# Altium footprint library badge.PcbLib: 33 footprints (part 2 of 3)
Each footprint in its own frame and in the unit in brackets; x right, y up, seen from the top. Pads: shape width x height; smd on the part's side, far side on the other; paste and mask are expansions set on the pad; w line width, h text height; cw(c..) or ccw(c..) is an arc to the next point about the centre after c.
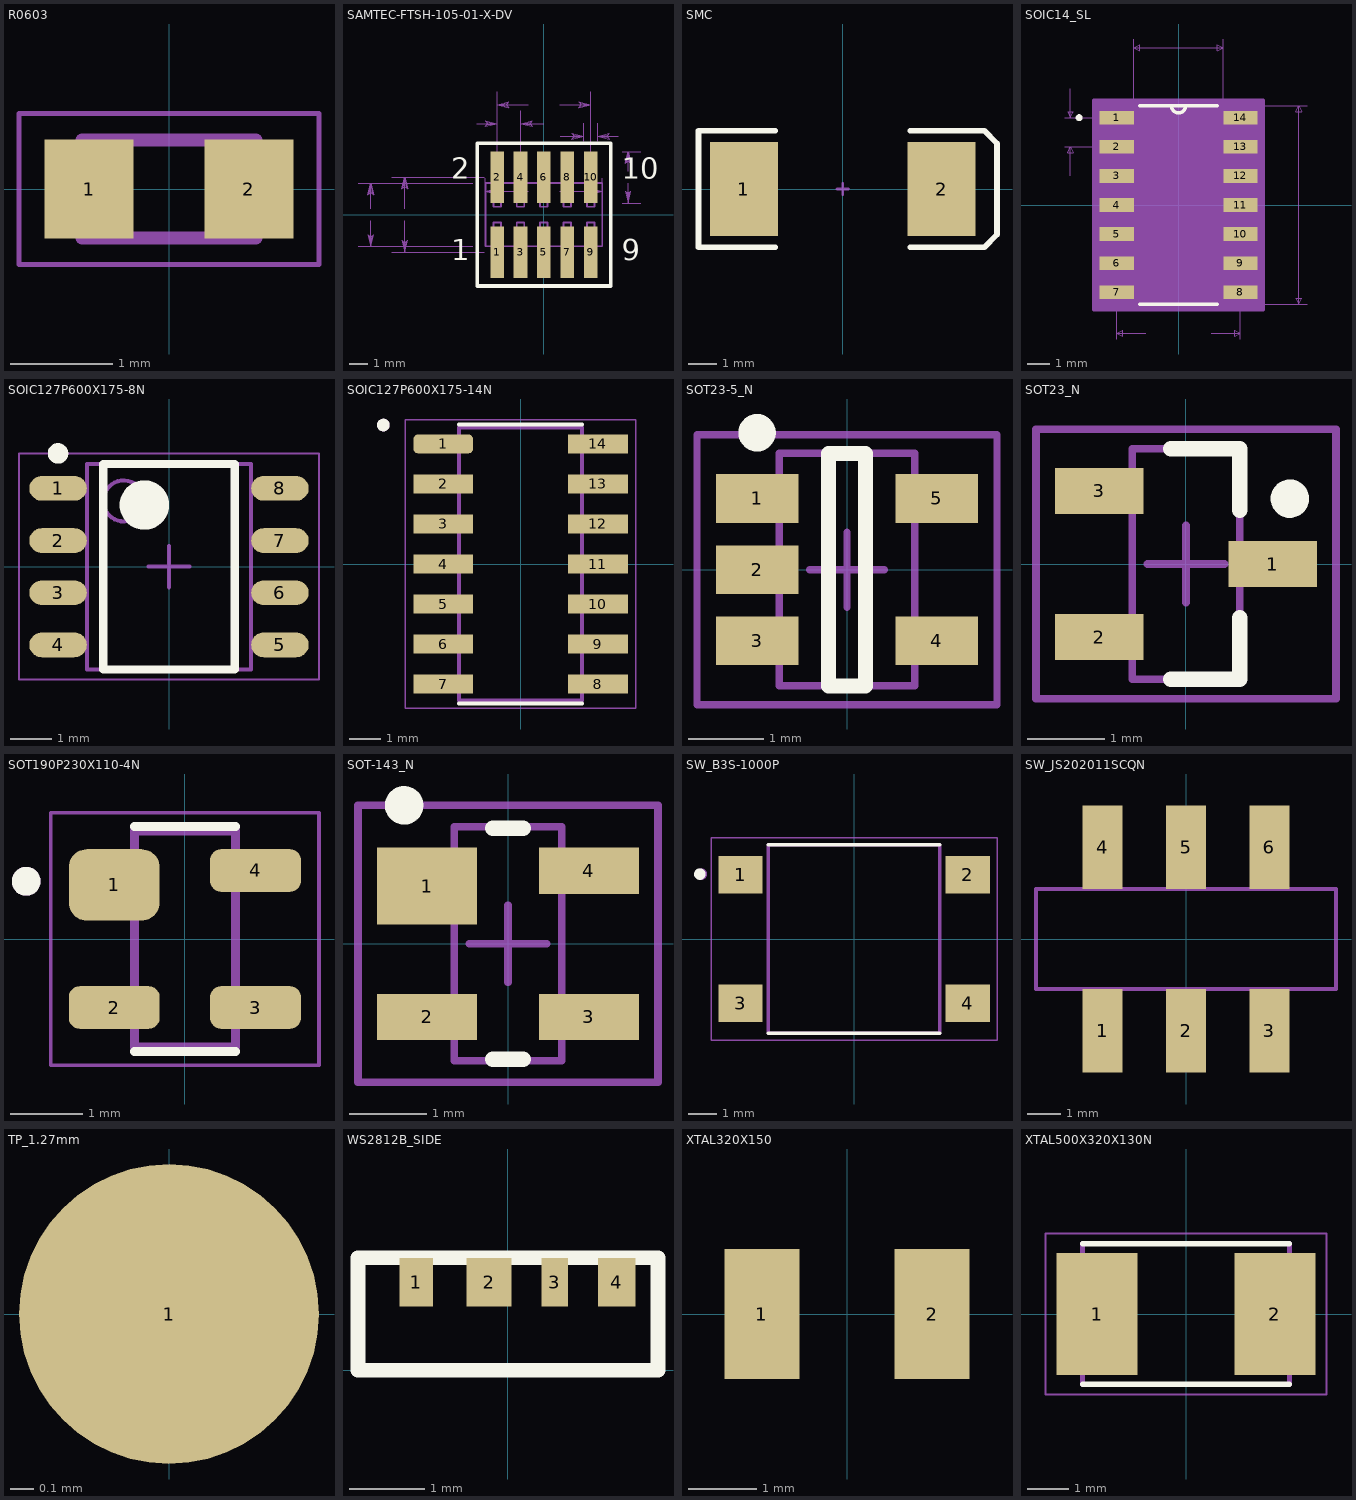
[diagram p1: the footprints below, top view; thin cyan lines are the x and y axes]

## R0603 [mm]
pads (2):
  rect 0.87x0.97 smd: 1(-0.78,0) 2(0.78,0)
Mechanical 13:
  lines w0.127: -0.85,-0.48 -0.85,0.48 0.85,0.48 0.85,-0.48 -0.85,-0.48
Mechanical 15:
  lines w0.05: -1.465,-0.737 -1.465,0.737 1.465,0.737 1.465,-0.737 -1.465,-0.737
3D body "RESC150X80X50L40.STEP": height 0.5, standoff 0, extent -0.75,-0.4 0.75,0.4

## SAMTEC-FTSH-105-01-X-DV [mil]
pads (10):
  rect 29.13x109.84 smd: 1(-100,-80) 2(-100,80) 3(-50,-80) 4(-50,80) 5(0,-80) 6(0,80) 7(50,-80) 8(50,80) 9(100,-80) 10(100,80)
Top Overlay:
  lines w7.87: -142.72,-152.68 -142.72,152.68 142.72,152.68 142.72,-152.68 -142.72,-152.68
  text "1" at -198.07,-112.01 h77.5
  text "2" at -198.07,62.01 h77.5
  text "9" at 166.58,-112.01 h77.5
  text "10" at 166.58,62.01 h77.5
Top Paste:
  rectangle: -114.57,-134.92 -85.43,-25.08
  rectangle: -114.57,25.08 -85.43,134.92
  rectangle: -64.57,-134.92 -35.43,-25.08
  rectangle: -64.57,25.08 -35.43,134.92
  rectangle: -14.57,-134.92 14.57,-25.08
  rectangle: -14.57,25.08 14.57,134.92
  rectangle: 35.43,-134.92 64.57,-25.08
  rectangle: 35.43,25.08 64.57,134.92
  rectangle: 85.43,-134.92 114.57,-25.08
  rectangle: 85.43,25.08 114.57,134.92
Top Solder:
  rectangle: -116.58,-136.93 -83.43,-23.07
  rectangle: -116.58,23.07 -83.43,136.93
  rectangle: -66.58,-136.93 -33.43,-23.07
  rectangle: -66.58,23.07 -33.43,136.93
  rectangle: -16.58,-136.93 16.58,-23.07
  rectangle: -16.58,23.07 16.58,136.93
  rectangle: 33.43,-136.93 66.58,-23.07
  rectangle: 33.43,23.07 66.58,136.93
  rectangle: 83.43,-136.93 116.58,-23.07
  rectangle: 83.43,23.07 116.58,136.93
Mechanical 16:
  lines w3.94: -107.99,-67.48 -107.99,-115 -92.01,-115 -92.01,-67.48 ; -107.99,-33.5 -92.01,-33.5 ; -107.99,67.48 -107.99,115 -92.01,115 -92.01,67.48 ; -57.99,-67.48 -57.99,-115 -42.01,-115 -42.01,-67.48 ; -57.99,-33.5 -42.01,-33.5 ; -57.99,67.48 -57.99,115 -42.01,115 -42.01,67.48 ; -7.99,-67.48 -7.99,-115 7.99,-115 7.99,-67.48 ; -7.99,-33.5 7.99,-33.5 ; -7.99,67.48 -7.99,115 7.99,115 7.99,67.48 ; 42.01,-67.48 42.01,-115 57.99,-115 57.99,-67.48 ; 42.01,-33.5 57.99,-33.5 ; 42.01,67.48 42.01,115 57.99,115 57.99,67.48 ; 92.01,-67.48 92.01,-115 107.99,-115 107.99,-67.48 ; 92.01,-33.5 107.99,-33.5 ; 92.01,67.48 92.01,115 107.99,115 107.99,67.48 ; -125,-67.48 -75,-67.48 -25,-67.48 25,-67.48 75,-67.48 125,-67.48 125,67.48 75,67.48 25,67.48 -25,67.48 -75,67.48 -125,67.48 -125,-67.48 ; -107.99,-32.99 -92.01,-32.99 -92.01,-17.01 -107.99,-17.01 -107.99,-32.99 ; -107.99,17.01 -92.01,17.01 -92.01,32.99 -107.99,32.99 -107.99,17.01 ; -57.99,-32.99 -42.01,-32.99 -42.01,-17.01 -57.99,-17.01 -57.99,-32.99 ; -57.99,17.01 -42.01,17.01 -42.01,32.99 -57.99,32.99 -57.99,17.01 ; -7.99,-32.99 7.99,-32.99 7.99,-17.01 -7.99,-17.01 -7.99,-32.99 ; -7.99,17.01 7.99,17.01 7.99,32.99 -7.99,32.99 -7.99,17.01 ; 42.01,-32.99 57.99,-32.99 57.99,-17.01 42.01,-17.01 42.01,-32.99 ; 42.01,17.01 57.99,17.01 57.99,32.99 42.01,32.99 42.01,17.01 ; 92.01,-32.99 107.99,-32.99 107.99,-17.01 92.01,-17.01 92.01,-32.99 ; 92.01,17.01 107.99,17.01 107.99,32.99 92.01,32.99 92.01,17.01
  text "1" at -198.07,-112.01 h77.5
  text "2" at -198.07,62.01 h77.5
  text "9" at 166.58,-112.01 h77.5
  text "10" at 166.58,62.01 h77.5
Mechanical 40:
  drawing of 154 lines, arcs and shapes, not listed
  text "4.064" at -323.5,-5 h15.5
  text "3.429" at -395.98,-5 h15.5
  text "1.270" at -203.5,190 h15.5
  text "6.350" at -25.98,45 h15.5
  text "5.080" at -25.98,230 h15.5
  text "2.794" at 154.02,75 h15.5
  text "0.762" at 166.5,162.52 h15.5
3D body "OMRON_B3S-1000.STEP": height 185.04, standoff 0, extent -129.91,-118.1 129.93,118.12

## SMC [mm] "DO-214-AB/SMC; 2 C-Bend Leads; Body 7.9 x 5.9 mm, inc. leads (LxW)"
height 2.65
pads (2):
  rect 2.4x3.3 smd: 1(-3.475,0) 2(3.475,0)
Top Overlay:
  lines w0.2: -2.375,-2.05 -5.075,-2.05 -5.075,2.05 -2.375,2.05 ; 2.375,-2.05 4.975,-2.05 5.425,-1.6 5.425,1.6 4.975,2.055 ; 2.375,2.05 4.975,2.05
Mechanical 1:
  lines w0.1: -0.2,0 0.2,0 ; 0,-0.2 0,0.2

## SOIC14_SL [mm]
pads (14):
  rect 1.5x0.6 smd: 1(-2.7,3.81) 2(-2.7,2.54) 3(-2.7,1.27) 4(-2.7,0) 5(-2.7,-1.27) 6(-2.7,-2.54) 7(-2.7,-3.81) 8(2.7,-3.81) 9(2.7,-2.54) 10(2.7,-1.27) 11(2.7,0) 12(2.7,1.27) 13(2.7,2.54) 14(2.7,3.81)
Top Overlay:
  circle w0.152: c-4.339,3.81 r0.076
  lines w0.152: -1.696,-4.325 1.696,-4.325 ; -1.696,4.325 1.696,4.325 ; -0.305,4.325 ccw(c0,4.325) 0.305,4.325
Mechanical 5:
  region: 3.641,-4.516 -3.641,-4.516 -3.641,4.516 3.641,4.516
Mechanical 7:
  lines w0.025: -4.974,2.54 -2.7,2.54 ; -4.974,3.81 -2.7,3.81 ; -4.72,1.27 -4.72,2.54 ; -4.72,5.08 -4.72,3.81 ; -2.7,-5.849 -2.7,-3.81 ; -1.95,4.325 -1.95,7.246 ; -1.43,-5.595 -2.7,-5.595 ; 1.43,-5.595 2.7,-5.595 ; 1.95,-4.325 5.621,-4.325 ; 1.95,7.246 1.95,4.325 5.621,4.325 ; 2.7,-5.849 2.7,-3.81 ; -4.72,2.54 -4.593,2.286 -4.847,2.286 -4.72,2.54 ; -4.72,3.81 -4.593,4.064 -4.847,4.064 -4.72,3.81 ; -2.7,-5.595 -2.446,-5.722 -2.446,-5.468 -2.7,-5.595 ; -1.95,6.865 1.95,6.865 ; -1.95,6.865 -1.696,6.992 -1.696,6.738 -1.95,6.865 ; 1.95,6.865 1.696,6.992 1.696,6.738 1.95,6.865 ; 2.7,-5.595 2.446,-5.722 2.446,-5.468 2.7,-5.595 ; 5.24,-4.325 5.24,4.325 ; 5.24,-4.325 5.113,-4.071 5.367,-4.071 5.24,-4.325 ; 5.24,4.325 5.113,4.071 5.367,4.071 5.24,4.325
  text "Default Padstyle: RX59p06Y23p62D0T" at -10.795,-9.405 h1.27
  text "Pin 1 Padstyle: RX59p06Y23p62D0T" at -10.16,-10.929 h1.27
  text "Alt 1 Padstyle: OX60Y90D30P" at -8.572,-13.977 h1.27
  text "Alt 2 Padstyle: OX90Y60D30P" at -8.572,-15.501 h1.27
  text ".05in/1.27mm" at -8.784,2.857 h0.64
  text ".2125984in/5.4mm" at -2.54,-6.23 h0.64
  text "0.1535433in/3.9mm" at -2.699,7.373 h0.64
  text "0.3405512in/8.65mm" at 5.748,-0.318 h0.64
Mechanical 13:
  circle w0: c-4.339,3.81 r0.076
  lines w0: -0.305,4.325 ccw(c0,4.325) 0.305,4.325
  lines w0.025: -1.95,-4.325 1.95,-4.325 1.95,4.325 -1.95,4.325 -1.95,-4.325
Mechanical 15:
  region: 3.704,-4.579 -3.704,-4.579 -3.704,4.579 3.704,4.579
  lines w0.152: -3.704,-4.579 -3.704,4.579 3.704,4.579 3.704,-4.579 -3.704,-4.579
3D body: height 0.25, standoff 0, extent 0,0 0.254,0.254

## SOIC127P600X175-8N [mm] "SOIC, 8-Leads, Body 4.90x3.90mm, Pitch 1.27mm, IPC Medium Density"
height 1.75
pads (8):
  oval 1.4x0.6 smd: 1(-2.7,1.905) 2(-2.7,0.635) 3(-2.7,-0.635) 4(-2.7,-1.905) 5(2.7,-1.905) 6(2.7,-0.635) 7(2.7,0.635) 8(2.7,1.905)
Top Overlay:
  circle w0.25: c-2.7,2.755 r0.125
  circle w0.6: c-0.6,1.5 r0.3
  lines w0.2: -1.6,-2.5 -1.6,2.5 1.6,2.5 1.6,-2.5 -1.6,-2.5
Mechanical 13:
  circle w0.1: c-1.1,1.6 r0.5
  lines w0.1: -2,-2.5 -2,2.5 2,2.5 2,-2.5 -2,-2.5
Mechanical 15:
  lines w0.05: -3.65,-2.75 -3.65,2.75 3.65,2.75 3.65,-2.75 -3.65,-2.75
  lines w0.1: -0.5,0 0.5,0 ; 0,-0.5 0,0.5
3D body: height 1.75, standoff 0.1, extent -2,-2.5 2,2.5

## SOIC127P600X175-14N [mm]
pads (14):
  rrect50% 1.9x0.6 smd: 1(-2.455,3.81)
  rect 1.9x0.6 smd: 2(-2.455,2.54) 3(-2.455,1.27) 4(-2.455,0) 5(-2.455,-1.27) 6(-2.455,-2.54) 7(-2.455,-3.81) 8(2.455,-3.81) 9(2.455,-2.54) 10(2.455,-1.27) 11(2.455,0) 12(2.455,1.27) 13(2.455,2.54) 14(2.455,3.81)
Top Overlay:
  circle w0.2: c-4.355,4.41 r0.1
  lines w0.127: -1.95,-4.43 1.95,-4.43 ; -1.95,4.43 1.95,4.43
Mechanical 4:
  circle w0.2: c-4.355,4.41 r0.1
  circle w0.2: c-4.355,4.41 r0.1
  lines w0.127: -1.95,-4.325 -1.95,4.325 ; -1.95,-4.325 1.95,-4.325 ; -1.95,-4.325 -1.95,4.325 ; -1.95,-4.325 1.95,-4.325 ; -1.95,4.325 1.95,4.325 ; -1.95,4.325 1.95,4.325 ; 1.95,-4.325 1.95,4.325 ; 1.95,-4.325 1.95,4.325
Mechanical 16:
  lines w0.05: -3.655,-4.575 -3.655,4.575 3.655,4.575 3.655,-4.575 -3.655,-4.575

## SOT23-5_N [mm] "SOT23, 6-Leads, Body 2.9x1.6mm, Pitch 0.95mm, Lead Span 2.7mm, IPC Medium Density"
height 1.45
pads (5):
  rect 1.1x0.65 smd: 1(-1.2,0.95) 2(-1.2,0) 3(-1.2,-0.95) 4(1.2,-0.95) 5(1.2,0.95)
Top Overlay:
  circle w0.25: c-1.2,1.825 r0.125
  lines w0.2: -0.25,-1.55 0.25,-1.55 0.25,1.55 -0.25,1.55 -0.25,-1.55
Mechanical 13:
  lines w0.1: -0.9,-1.55 -0.9,1.55 0.9,1.55 0.9,-1.55 -0.9,-1.55
Mechanical 15:
  lines w0.1: -0.5,0 0.5,0 ; 0,-0.5 0,0.5 ; -2,-1.8 -2,1.8 2,1.8 2,-1.8 -2,-1.8
3D body: height 1.45, standoff 0, extent -0.9,-1.55 0.9,1.55
3D body "SOT23-5P95_280X145L45X37.STEP": height 1.45, standoff 0, extent -1.4,-1.45 1.4,1.45

## SOT23_N [mm] "SOT23, 3-Leads, Body 2.9x1.3mm, Pitch 0.95mm, Lead Span 2.3mm - Reverse Pinning, IPC Medium Density"
height 1.1
pads (3):
  rect 1.15x0.6 smd: 1(1.125,0) 2(-1.125,-0.95) 3(-1.125,0.95)
Top Overlay:
  circle w0.25: c1.35,0.85 r0.125
  lines w0.2: -0.2,-1.5 0.7,-1.5 0.7,-0.7 ; -0.2,1.5 0.7,1.5 0.7,0.7
Mechanical 13:
  lines w0.1: -0.7,-1.5 -0.7,1.5 0.7,1.5 0.7,-1.5 -0.7,-1.5
Mechanical 15:
  lines w0.1: -0.5,0 0.5,0 ; 0,-0.5 0,0.5 ; -1.95,-1.75 -1.95,1.75 1.95,1.75 1.95,-1.75 -1.95,-1.75
3D body: height 1.1, standoff 0, extent -0.7,-1.5 0.7,1.5
3D body "SOT23-3P95_240X120L25X48.STEP": height 1.2, standoff 0, extent -1.2,-1.46 1.2,1.46

## SOT190P230X110-4N [mm]
pads (4):
  rrect50% 1.26x0.99 smd: 1(-0.98,0.75)
  rrect50% 1.26x0.59 smd: 2(-0.98,-0.95) 3(0.98,-0.95) 4(0.98,0.95)
Top Overlay:
  circle w0.2: c-2.2,0.8 r0.1
  lines w0.127: -0.7,-1.559 0.7,-1.559 ; -0.7,1.559 0.7,1.559
Mechanical 13:
  circle w0.2: c-2.2,0.8 r0.1
  lines w0.127: -0.7,-1.5 0.7,-1.5 0.7,1.5 -0.7,1.5 -0.7,-1.5
Mechanical 15:
  lines w0.05: -1.86,-1.75 -1.86,1.75 1.86,1.75 1.86,-1.75 -1.86,-1.75
3D body "SOT143-4P190_230X110L30X43.STEP": height 1.1, standoff 0, extent -1.023,-1.45 1.277,1.45

## SOT-143_N [mm] "SOT143, 4-Leads, Body 2.9x1.3mm, Pitch 1.9mm, Lead Span 2.5mm, IPC Medium Density"
height 1.1
pads (4):
  rect 1.3x1 smd: 1(-1.05,0.75)
  rect 1.3x0.6 smd: 2(-1.05,-0.95) 3(1.05,-0.95) 4(1.05,0.95)
Top Overlay:
  circle w0.25: c-1.35,1.8 r0.125
  lines w0.2: -0.2,-1.5 0.2,-1.5 ; -0.2,1.5 0.2,1.5
Mechanical 13:
  lines w0.1: -0.7,-1.52 -0.7,1.52 0.7,1.52 0.7,-1.52 -0.7,-1.52
Mechanical 15:
  lines w0.1: -0.5,0 0.5,0 ; 0,-0.5 0,0.5 ; -1.95,-1.8 -1.95,1.8 1.95,1.8 1.95,-1.8 -1.95,-1.8
3D body: height 1.1, standoff 0, extent -0.7,-1.52 0.7,1.52
3D body "SOT143-4P190_230X110L30X43.STEP": height 1.1, standoff 0, extent -1.15,-1.45 1.15,1.45

## SW_B3S-1000P [mm]
pads (4):
  rect 1.55x1.3 smd: 1(-3.975,2.25) 2(3.975,2.25) 3(-3.975,-2.25) 4(3.975,-2.25)
Top Overlay:
  circle w0.2: c-5.4,2.27 r0.1
  lines w0.127: -3,-3.3 3,-3.3 ; -3,3.3 3,3.3
Mechanical 13:
  circle w0.2: c-5.347,2.27 r0.1
  lines w0.127: -3,-3.3 3,-3.3 3,3.3 -3,3.3 -3,-3.3
Mechanical 15:
  lines w0.05: -5,-3.55 5,-3.55 5,3.55 -5,3.55 -5,-3.55

## SW_JS202011SCQN [mm]
pads (6):
  rect 1.2x2.5 smd: 1(-2.5,-2.75) 2(0,-2.75) 3(2.5,-2.75) 4(-2.5,2.75) 5(0,2.75) 6(2.5,2.75)
Mechanical 13:
  lines w0.127: -4.5,-1.5 4.5,-1.5 4.5,1.5 -4.5,1.5 -4.5,-1.5
3D body "JS202011SCQN--3DModel-STEP-56544.STEP": height 5.51, standoff 0, extent -4.496,-3.746 4.496,3.747

## TP_1.27mm [mm]
pads (1):
  round 1.27 smd: 1(0,0)

## WS2812B_SIDE [mm]
pads (4):
  rect 0.45x0.65 smd: 1(-1.225,1.175)
  rect 0.6x0.65 smd: 2(-0.25,1.175)
  rect 0.35x0.65 smd: 3(0.625,1.175)
  rect 0.5x0.65 smd: 4(1.45,1.175)
Top Overlay:
  lines w0.2: -2,0 0,0 2,0 2,1.5 -2,1.5 -2,0

## XTAL320X150 [mm]
pads (2):
  rect 1.1x1.9 smd: 1(-1.25,0) 2(1.25,0)

## XTAL500X320X130N [mm]
pads (2):
  rect 1.95x2.95 smd: 1(-2.15,0) 2(2.15,0)
Top Overlay:
  lines w0.127: -2.5,-1.7 2.5,-1.7 ; -2.5,1.7 2.5,1.7
Mechanical 13:
  lines w0.127: -2.5,-1.7 -2.5,1.7 ; 2.5,-1.7 2.5,1.7
Mechanical 15:
  lines w0.05: -3.4,-1.95 -3.4,1.95 3.4,1.95 3.4,-1.95 -3.4,-1.95
3D body "XTALSC320X500X130L130.STEP": height 1.3, standoff 0, extent -2.55,-1.6 2.55,1.6